# Altium footprint library transformer.PcbLib: 18 footprints (part 2 of 2)
Each footprint in its own frame and in the unit in brackets; x right, y up, seen from the top. Pads: shape width x height; smd on the part's side, far side on the other; paste and mask are expansions set on the pad; w line width, h text height; cw(c..) or ccw(c..) is an arc to the next point about the centre after c.
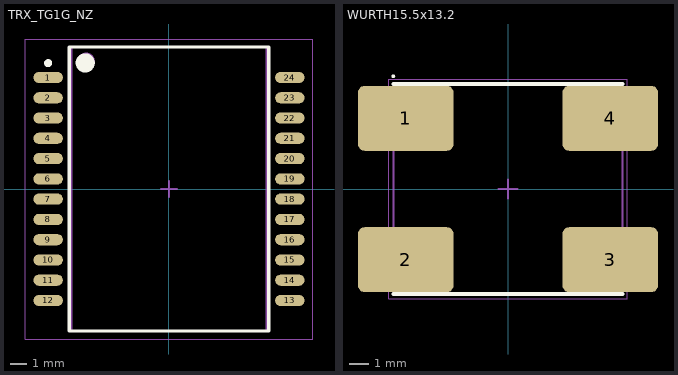
[diagram p1: the footprints below, top view; thin cyan lines are the x and y axes]

## TRX_TG1G_NZ [mm] "SOIC, 24-Leads, Body 17,78x12,19mm, Pitch 1,27mm, IPC Low Density"
height 5.84
pads (24):
  oval 1.85x0.7 smd: 1(-7.575,6.985) 2(-7.575,5.715) 3(-7.575,4.445) 4(-7.575,3.175) 5(-7.575,1.905) 6(-7.575,0.635) 7(-7.575,-0.635) 8(-7.575,-1.905) 9(-7.575,-3.175) 10(-7.575,-4.445) 11(-7.575,-5.715) 12(-7.575,-6.985) 13(7.575,-6.985) 14(7.575,-5.715) 15(7.575,-4.445) 16(7.575,-3.175) 17(7.575,-1.905) 18(7.575,-0.635) 19(7.575,0.635) 20(7.575,1.905) 21(7.575,3.175) 22(7.575,4.445) 23(7.575,5.715) 24(7.575,6.985)
Top Overlay:
  circle w0.25: c-7.575,7.885 r0.125
  circle w0.6: c-5.25,7.9 r0.3
  lines w0.2: -6.25,-8.9 -6.25,8.9 6.25,8.9 6.25,-8.9 -6.25,-8.9
Mechanical 13:
  circle w0.1: c-5.2,8 r0.5
  lines w0.1: -6.1,-8.9 -6.1,8.9 6.1,8.9 6.1,-8.9 -6.1,-8.9
Mechanical 15:
  lines w0.05: -9,-9.4 -9,9.4 9,9.4 9,-9.4 -9,-9.4
  lines w0.1: -0.5,0 0.5,0 ; 0,-0.5 0,0.5
3D body: height 5.84, standoff 0.25, extent -6.1,-8.9 6.1,8.9

## WURTH15.5x13.2 [mm] "IPC Medium Density"
height 6
pads (4):
  rrect20% 5x3.4 smd: 1(-5.35,3.7) 2(-5.35,-3.7) 3(5.35,-3.7) 4(5.35,3.7)
Top Overlay:
  circle w0.1: c-6,5.9 r0.05
  lines w0.2: -6,-5.5 6,-5.5 ; -6,5.5 6,5.5
Mechanical 13:
  lines w0.1: -6,-5.5 -6,5.5 6,5.5 6,-5.5 -6,-5.5
Mechanical 15:
  lines w0.05: -6.25,-5.75 -6.25,5.75 6.25,5.75 6.25,-5.75 -6.25,-5.75
  lines w0.1: -0.5,0 0.5,0 ; 0,-0.5 0,0.5
3D body "WE-CFWI_1310.stp": height 9.75, standoff 0, extent -7.2,-6.6 7.2,6.6